# EAGLE library part FPC-27WAY (library pimoroni-fpc)
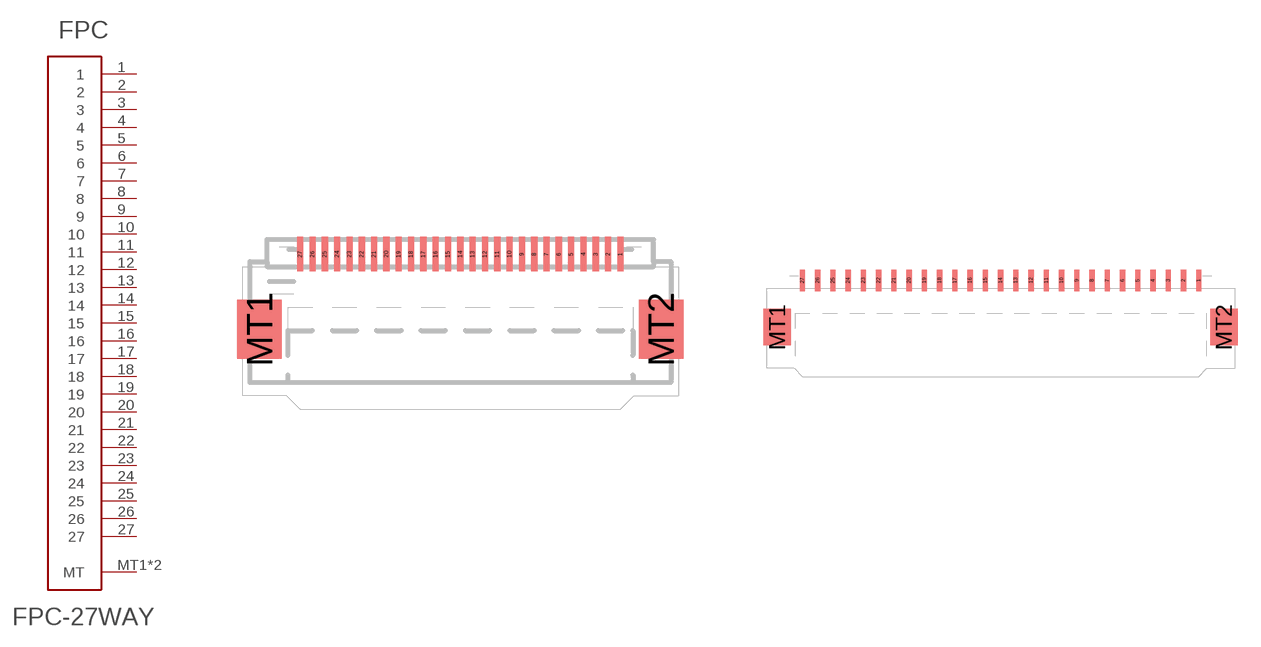
[diagram p22: symbol with the pads of FPC-0.5MM-27WAY; footprints FPC-0.5MM-27WAY, FPC-1.0MM-27WAY]

Designator prefix FPC

## FPC-27WAY0.5  [FPC-0.5MM-27WAY]
1  1
2  2
3  3
4  4
5  5
6  6
7  7
8  8
9  9
10  10
11  11
12  12
13  13
14  14
15  15
16  16
17  17
18  18
19  19
20  20
21  21
22  22
23  23
24  24
25  25
26  26
27  27
MT1  MT
MT2  MT

## FPC-27WAY1.0  [FPC-1.0MM-27WAY]
Pads as for FPC-0.5MM-27WAY

## Footprint FPC-0.5MM-27WAY (pad centres in mm)
smd 0.25 x 1.4: 1 6.5,0.7; 2 6,0.7; 3 5.5,0.7; 4 5,0.7; 5 4.5,0.7; 6 4,0.7; 7 3.5,0.7; 8 3,0.7; 9 2.5,0.7; 10 2,0.7; 11 1.5,0.7; 12 1,0.7; 13 0.5,0.7; 14 0,0.7; 15 -0.5,0.7; 16 -1,0.7; 17 -1.5,0.7; 18 -2,0.7; 19 -2.5,0.7; 20 -3,0.7; 21 -3.5,0.7; 22 -4,0.7; 23 -4.5,0.7; 24 -5,0.7; 25 -5.5,0.7; 26 -6,0.7; 27 -6.5,0.7
smd 1.8 x 2.4: MT1 -8.15,-2.35; MT2 8.15,-2.35

## Footprint FPC-1.0MM-27WAY (pad centres in mm)
smd 0.35 x 1.4: 1 13,0.7; 2 12,0.7; 3 11,0.7; 4 10,0.7; 5 9,0.7; 6 8,0.7; 7 7,0.7; 8 6,0.7; 9 5,0.7; 10 4,0.7; 11 3,0.7; 12 2,0.7; 13 1,0.7; 14 0,0.7; 15 -1,0.7; 16 -2,0.7; 17 -3,0.7; 18 -4,0.7; 19 -5,0.7; 20 -6,0.7; 21 -7,0.7; 22 -8,0.7; 23 -9,0.7; 24 -10,0.7; 25 -11,0.7; 26 -12,0.7; 27 -13,0.7
smd 1.8 x 2.4: MT1 -14.65,-2.35; MT2 14.65,-2.35